# Altium schematic symbol library Schlib1.SchLib: 1 symbol
Pins are listed as number, name and electrical type; pins without a type are passive.

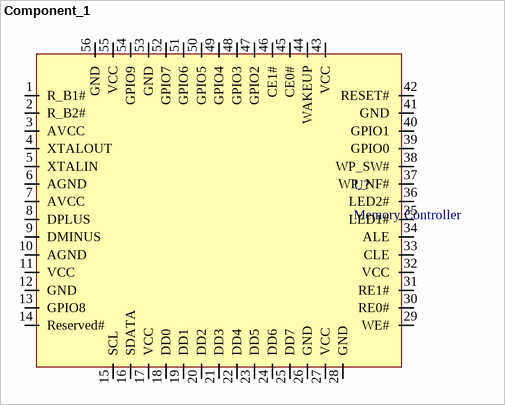
[diagram p0: symbol Component_1]

## Component_1
designator U?, comment Memory Controller
footprint QFN50P800X800X100-56N (QFN, 56-Leads, Body 8,0x8,0mm (max), Pitch 0,50mm, IPC Medium Density)
pins: 1 R_B1#, 2 R_B2#, 3 AVCC, 4 XTALOUT, 5 XTALIN, 6 AGND, 7 AVCC, 8 DPLUS, 9 DMINUS, 10 AGND, 11 VCC, 12 GND, 13 GPIO8, 14 Reserved#, 15 SCL, 16 SDATA, 17 VCC, 18 DD0, 19 DD1, 20 DD2, 21 DD3, 22 DD4, 23 DD5, 24 DD6, 25 DD7, 26 GND, 27 VCC, 28 GND, 29 WE#, 30 RE0#, 31 RE1#, 32 VCC, 33 CLE, 34 ALE, 35 LED1#, 36 LED2#, 37 WP_NF#, 38 WP_SW#, 39 GPIO0, 40 GPIO1, 41 GND, 42 RESET#, 43 VCC, 44 WAKEUP, 45 CE0#, 46 CE1#, 47 GPIO2, 48 GPIO3, 49 GPIO4, 50 GPIO5, 51 GPIO6, 52 GPIO7, 53 GND, 54 GPIO9, 55 VCC, 56 GND